# Altium footprint library Switch & Relays FAE.PcbLib: 34 footprints (part 1 of 3)
Each footprint in its own frame and in the unit in brackets; x right, y up, seen from the top. Pads: shape width x height; smd on the part's side, far side on the other; paste and mask are expansions set on the pad; w line width, h text height; cw(c..) or ccw(c..) is an arc to the next point about the centre after c.
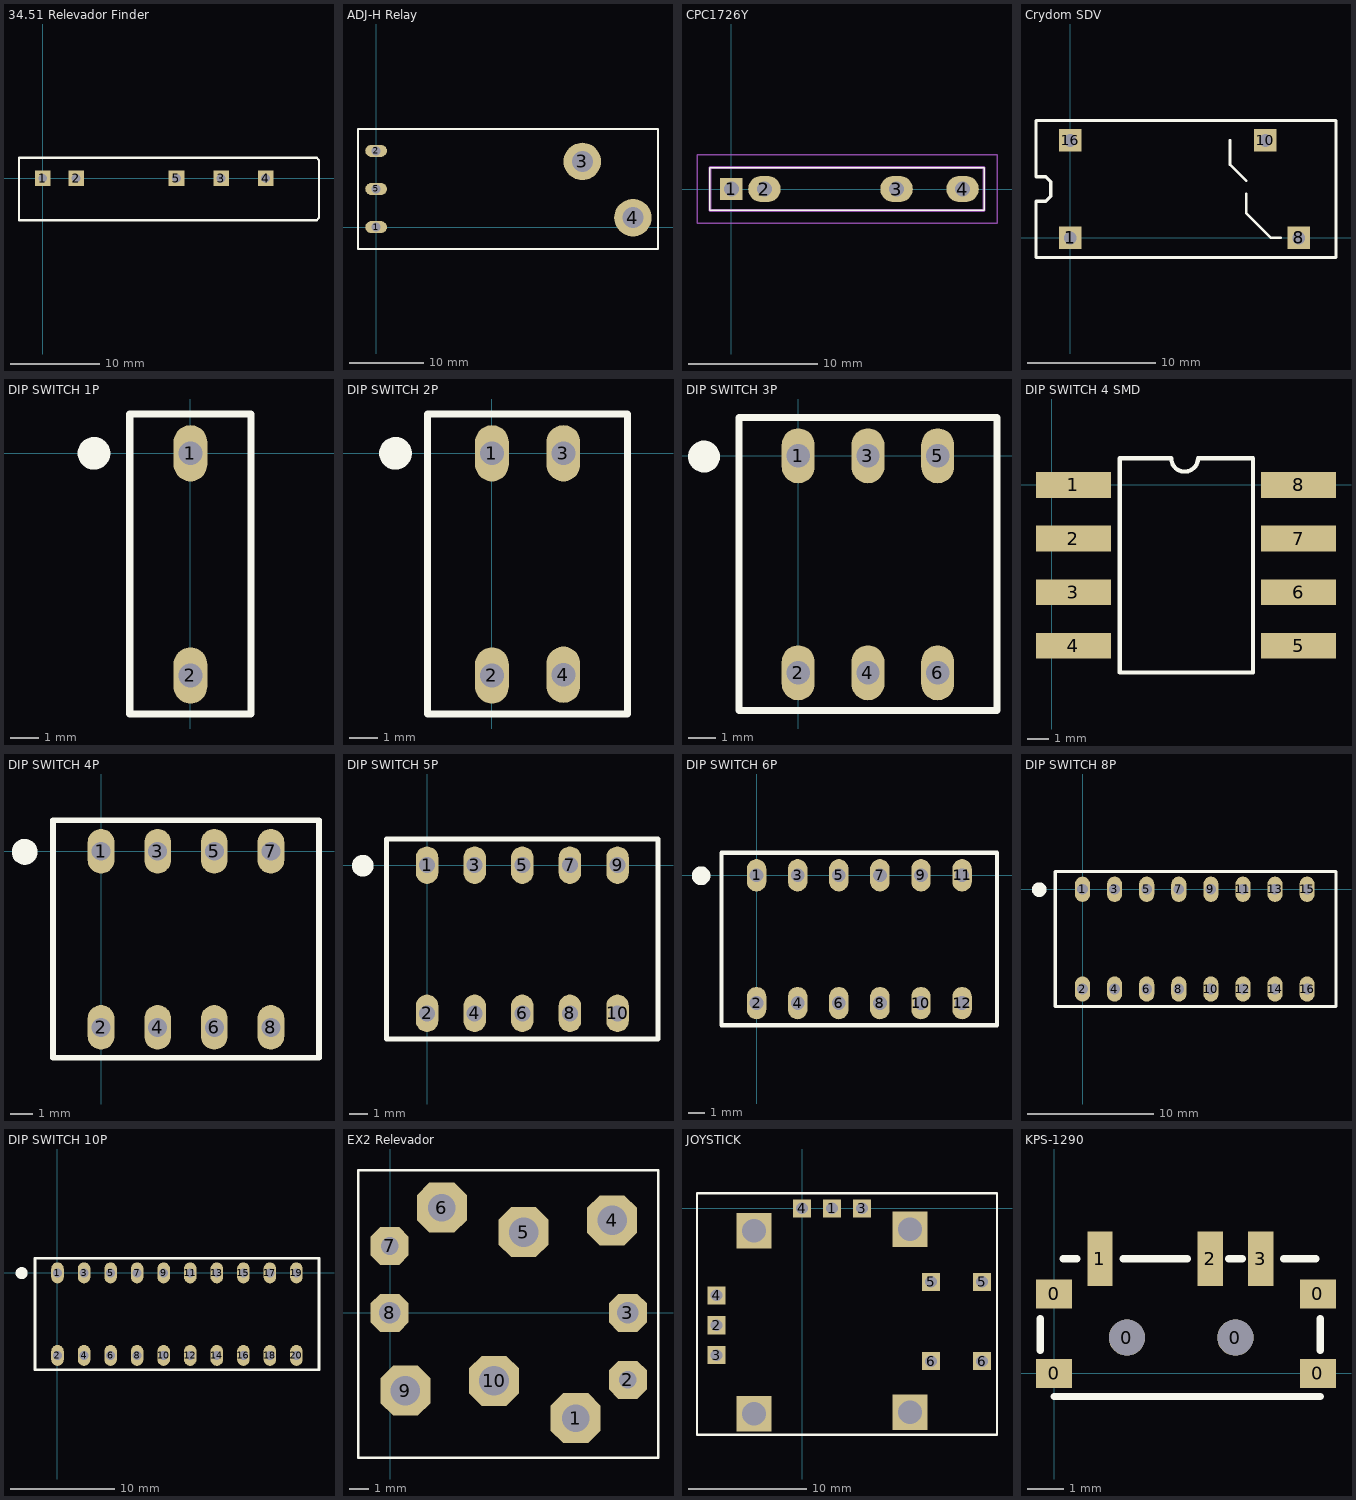
[diagram p0: the footprints below, top view; thin cyan lines are the x and y axes]

## 34.51 Relevador Finder [mm] "Relevador Finder 34.51"
pads (5):
  rect 1.75x1.75 hole 1: 1(0,0) 2(3.75,0) 3(20,0) 4(25,0) 5(15,0)
Top Overlay:
  lines w0.254: -2.667,-4.699 -2.667,2.286 30.734,2.286 30.988,2.032 30.988,-4.445 30.734,-4.699 -2.667,-4.699
3D body "3451.stp": height 25.86, standoff 7.36, extent -1.173,-3.683 26.827,1.317
3D body "Base Finder 93.11.stp": height 31.98, standoff -2.32, extent -2.276,-4.318 30.724,1.882

## ADJ-H Relay [mm] "Relevador ADJH23112"
pads (5):
  oval 2.9x1.6 hole 1.2: 1(0,0) 2(0,10.16) 5(0,5.08)
  round 5 hole 2.8: 3(27.5,8.75) 4(34.25,1.25)
Top Overlay:
  lines w0.254: -2.413,-2.921 -2.413,13.081 37.592,13.081 37.592,-2.921 -2.413,-2.921
3D body "adjh23012.step": height 30.6, standoff -5, extent -1.974,-2.413 37.026,12.587

## CPC1726Y [mm]
pads (4):
  rect 1.725x1.725 hole 1.15: 1(0,0)
  oval 2.5x2 hole 1.15: 2(2.54,0) 3(12.7,0) 4(17.78,0)
Top Overlay:
  lines w0.1: -1.651,-1.651 -1.651,1.651 19.431,1.651 19.431,-1.651 -1.651,-1.651
Mechanical 15:
  lines w0.2: -1.651,-1.651 -1.651,1.651 19.431,1.651 19.431,-1.651 -1.651,-1.651
Mechanical 20:
  lines w0.1: -2.651,-2.651 -2.651,2.651 20.431,2.651 20.431,-2.651 -2.651,-2.651
3D body "CPC1726Y.stp": height 10.39, standoff -5, extent -1.651,-1.651 19.431,1.651

## Crydom SDV [mm] "SSR Relay Crydom SDV series"
pads (4):
  rect 1.75x1.75 hole 1: 1(0,0) 8(17.8,0) 10(15.2,7.6) 16(0,7.6)
Top Overlay:
  lines w0.2: 12.446,7.6 12.446,5.715 13.716,4.445 ; 13.716,3.429 13.716,1.905 15.621,0 16.383,0
  lines w0.254: -2.667,-1.524 -2.667,2.857 -1.905,2.857 -1.524,3.238 -1.524,4.381 -1.905,4.763 -2.667,4.763 -2.667,9.144 20.701,9.144 20.701,-1.524 -2.667,-1.524
3D body "DPA Relay Sensata.STEP": height 7.91, standoff -1.65, extent -1.765,-0.254 19.799,7.62

## DIP SWITCH 1P [mm] "Dip Switch 1P TH"
pads (2):
  oval 1.2x2 hole 0.85: 1(0,0) 2(0,-7.9)
Top Overlay:
  circle w0.65: c-3.429,0 r0.254
  lines w0.254: -2.159,-9.271 -2.159,1.397 2.159,1.397 2.159,-9.271 -2.159,-9.271
3D body "DIP Switch x01 Red.stp": height 7.05, standoff -3.2, extent -1.778,-8.887 1.762,1.013

## DIP SWITCH 2P [mm] "Dip Switch 2P TH"
pads (4):
  oval 1.2x2 hole 0.85: 1(0,0) 2(0,-7.9) 3(2.54,0) 4(2.54,-7.874)
Top Overlay:
  circle w0.65: c-3.429,0 r0.254
  lines w0.254: -2.286,-9.271 -2.286,1.397 4.826,1.397 4.826,-9.271 -2.286,-9.271
3D body "DS2P.step": height 7.1, standoff -3, extent -2.028,-9.017 4.572,1.143

## DIP SWITCH 3P [mm] "Dip Switch 3P TH"
pads (6):
  oval 1.2x2 hole 0.85: 1(0,0) 2(0,-7.9) 3(2.54,0) 4(2.54,-7.9) 5(5.08,0) 6(5.08,-7.9)
Top Overlay:
  circle w0.65: c-3.429,-0.026 r0.254
  lines w0.254: -2.159,-9.271 7.239,-9.271 7.239,1.397 -2.159,1.397 -2.159,-9.271
3D body "DIP Switch x03 Red.stp": height 6.85, standoff -3.4, extent -1.77,-9.014 6.85,0.886

## DIP SWITCH 4 SMD [mm]
pads (8):
  rect 3.5x1.2 smd: 1(1.016,0) 2(1.016,-2.5) 3(1.016,-5) 4(1.016,-7.5) 5(11.517,-7.5) 6(11.517,-5) 7(11.517,-2.5) 8(11.517,0)
Top Overlay:
  lines w0.2: 3.175,-8.75 3.175,1.25 5.578,1.25 ccw(c6.203,1.25) 6.828,1.25 9.398,1.25 9.398,-8.75 3.175,-8.75
3D body "DIP SWITCH SMD 4.STEP": height 4.22, standoff -0.05, extent 1.268,-9.498 11.178,2.132

## DIP SWITCH 4P [mm] "Dip Switch 4P TH"
pads (8):
  oval 1.2x2 hole 0.85: 1(0,0) 2(0,-7.9) 3(2.54,0) 4(2.54,-7.9) 5(5.08,0) 6(5.08,-7.9) 7(7.62,0) 8(7.62,-7.9)
Top Overlay:
  circle w0.65: c-3.429,-0.026 r0.254
  lines w0.254: -2.159,-9.271 9.779,-9.271 9.779,1.397 -2.159,1.397 -2.159,-9.271
3D body "DIP Switch x04 Red.stp": height 6.85, standoff -3.4, extent -1.77,-9.014 9.39,0.886

## DIP SWITCH 5P [mm] "Dip Switch 5P TH"
pads (10):
  oval 1.2x2 hole 0.85: 1(0,0) 2(0,-7.9) 3(2.54,0) 4(2.54,-7.9) 5(5.08,0) 6(5.08,-7.9) 7(7.62,0) 8(7.62,-7.9) 9(10.16,0) 10(10.16,-7.9)
Top Overlay:
  circle w0.65: c-3.429,-0.026 r0.254
  lines w0.254: -2.159,-9.271 12.319,-9.271 12.319,1.397 -2.159,1.397 -2.159,-9.271
3D body "DIP Switch x05 Red.stp": height 6.85, standoff -3.4, extent -1.77,-9.014 11.93,0.886

## DIP SWITCH 6P [mm] "Dip Switch 6P TH"
pads (12):
  oval 1.2x2 hole 0.85: 1(0,0) 2(0,-7.9) 3(2.54,0) 4(2.54,-7.9) 5(5.08,0) 6(5.08,-7.9) 7(7.62,0) 8(7.62,-7.9) 9(10.16,0) 10(10.16,-7.9) 11(12.7,0) 12(12.7,-7.9)
Top Overlay:
  circle w0.65: c-3.429,-0.026 r0.254
  lines w0.254: -2.159,-9.271 -2.159,1.397 14.859,1.397 14.859,-9.271 -2.159,-9.271
3D body "DIP Switch x06 Red.stp": height 6.85, standoff -3.4, extent -1.77,-9.014 14.47,0.886

## DIP SWITCH 8P [mm] "Dip Switch 8P TH"
pads (16):
  oval 1.2x2 hole 0.85: 1(0,0) 2(0,-7.9) 3(2.54,0) 4(2.54,-7.9) 5(5.08,0) 6(5.08,-7.9) 7(7.62,0) 8(7.62,-7.9) 9(10.16,0) 10(10.16,-7.9) 11(12.7,0) 12(12.7,-7.9) 13(15.24,0) 14(15.24,-7.9) 15(17.78,0) 16(17.78,-7.9)
Top Overlay:
  circle w0.65: c-3.429,-0.026 r0.254
  lines w0.254: -2.159,-9.271 -2.159,1.397 20.066,1.397 20.066,-9.271 -2.159,-9.271
3D body "DIP Switch x08 Red.stp": height 6.85, standoff -3.4, extent -1.77,-9.014 19.55,0.886

## DIP SWITCH 10P [mm] "Dip Switch 10P TH"
pads (20):
  oval 1.2x2 hole 0.85: 1(0,0) 2(0,-7.9) 3(2.54,0) 4(2.54,-7.9) 5(5.08,0) 6(5.08,-7.9) 7(7.62,0) 8(7.62,-7.9) 9(10.16,0) 10(10.16,-7.9) 11(12.7,0) 12(12.7,-7.9) 13(15.24,0) 14(15.24,-7.9) 15(17.78,0) 16(17.78,-7.9) 17(20.32,0) 18(20.32,-7.9) 19(22.86,0) 20(22.86,-7.9)
Top Overlay:
  circle w0.65: c-3.429,-0.026 r0.254
  lines w0.254: -2.159,-9.271 -2.159,1.397 25.019,1.397 25.019,-9.271 -2.159,-9.271
3D body "DIP Switch x10 Red.stp": height 6.85, standoff -3.4, extent -1.77,-9.014 24.63,0.886

## EX2 Relevador [mil] "Relevador 4PDT 2 Bobinas"
pads (10):
  oct 100x100 hole 55.12: 1(370.67,-210.63) 6(102.92,210.31)
  oct 76x76 hole 35.43: 2(475,-133.86) 7(-1.37,133.86)
  oct 76x76 hole 43.31: 3(475,0) 8(-1.37,0)
  oct 100x100 hole 59.06: 4(443.51,185.04) 5(266.34,161.42) 9(30.12,-155.51) 10(207.29,-135.83)
Top Overlay:
  lines w5: -64.72,-289.76 -64.72,285.24 535.28,285.24 535.28,-289.76 -64.72,-289.76
3D body: height 511.81, standoff 39.37, extent -55,-280 530,275

## JOYSTICK [mil]
pads (14):
  rect 60x60 hole 39.37: 1(100,0) 2(-285,-390) 3(-285,-490) 3(200,0) 4(-285,-290) 4(0,0) 5(430,-245) 5(600,-245) 6(430,-510) 6(600,-510)
  rect 118.11x118.11 hole 78.74: ""(-160,-685) ""(-160,-75) ""(360,-680) ""(360,-70)
Top Overlay:
  lines w7.87: -350,-755 650,-755 650,50 -350,50 -350,-755
3D body "JOYSTICK.STEP": height 787.4, standoff -129.92, extent -366.53,-762.04 730.93,76.54

## KPS-1290 [mm] "Micro Slide Switch"
pads (9):
  rect 1x0.8 smd: 0(0,0) 0(0,2.2) 0(7.3,0) 0(7.3,2.2)
  round 1 hole 1: 0(2.015,0.992) 0(5.015,0.992)
  rect 0.7x1.5 smd: 1(1.27,3.175) 2(4.318,3.175) 3(5.715,3.175)
Top Overlay:
  lines w0.2: -0.381,0.635 -0.381,1.524 ; 0,-0.635 7.366,-0.635 ; 0.254,3.175 0.635,3.175 ; 1.905,3.175 3.683,3.175 ; 4.826,3.175 5.207,3.175 ; 6.35,3.175 7.239,3.175 ; 7.366,0.635 7.366,1.524
3D body "MSS3_slide_switch_v2.step": height 1.4, standoff -0.5, extent -0.336,-1.744 7.364,3.256